# Altium footprint library LINX_CONBNC002.PcbLib: 1 footprints
Each footprint in its own frame and in the unit in brackets; x right, y up, seen from the top. Pads: shape width x height; smd on the part's side, far side on the other; paste and mask are expansions set on the pad; w line width, h text height; cw(c..) or ccw(c..) is an arc to the next point about the centre after c.
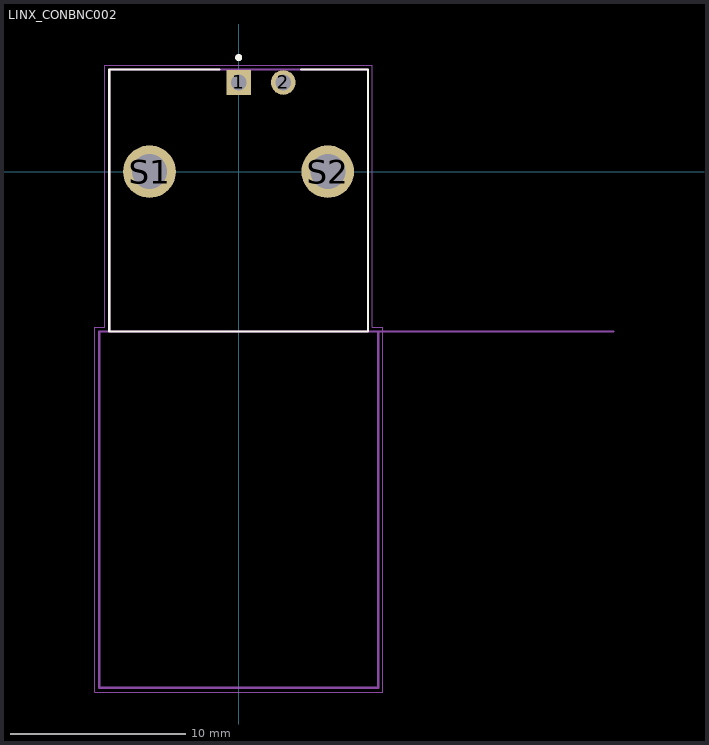
[diagram p0: the footprint, top view; thin cyan lines are the x and y axes]

## LINX_CONBNC002 [mm]
pads (4):
  rect 1.398x1.398 / inner round 1.398 / far side rect 1.398x1.398 hole 0.89: 1(0,5.08)
  round 1.398 hole 0.89: 2(2.54,5.08)
  round 3 hole 2: S1(-5.08,0) S2(5.08,0)
Top Overlay:
  circle w0.2: c0,6.5 r0.1
  lines w0.127: -1.1,5.82 -7.375,5.82 -7.375,-9.12 7.375,-9.12 7.375,5.82 3.56,5.82
Mechanical 13:
  circle w0.2: c0,6.5 r0.1
  lines w0.127: 21.345,-9.12 7.95,-9.12 ; -7.375,-9.12 -7.95,-9.12 -7.95,-29.42 7.95,-29.42 7.95,-9.12 ; -7.375,-9.12 -7.375,5.82 7.375,5.82 7.375,-9.12 ; -7.375,-9.12 7.375,-9.12 ; 7.375,-9.12 7.95,-9.12 ; 7.375,-9.12 7.95,-9.12
  text "PCB EDGE" at 8.89,-7.62 h1.78
Mechanical 15:
  lines w0.05: -8.2,-29.67 8.2,-29.67 8.2,-8.87 7.625,-8.87 7.625,6.07 -7.625,6.07 -7.625,-8.87 -8.2,-8.87 -8.2,-29.67
3D body "step_temp.STEP": height 14.89, standoff -4.24, extent -7.95,-29.38 7.95,5.82